# EAGLE library part ER-OLED011 (library ER-OLED)
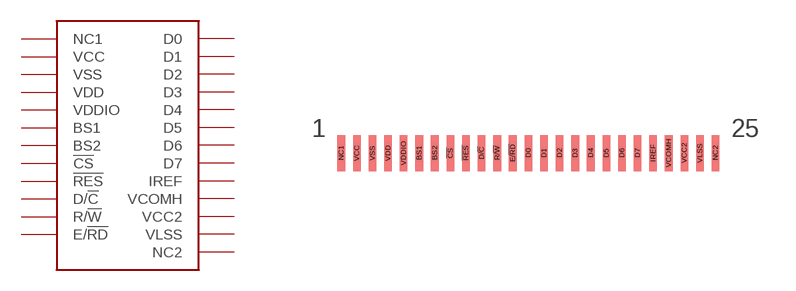
[diagram p4: symbol with the pads of ER-OLED011; footprint ER-OLED011]

Designator prefix -

## ER-OLED011  [ER-OLED011]
!CS  !CS
!RES  !RES
BS1  BS1
BS2  BS2
D0  D0
D1  D1
D2  D2
D3  D3
D4  D4
D5  D5
D6  D6
D7  D7
D/!C  D/!C
E/!RD  E/!RD
IREF  IREF
NC1  NC1
NC2  NC2
R/!W  R/!W
VCC  VCC
VCC2  VCC2
VCOMH  VCOMH
VDD  VDD
VDDIO  VDDIO
VLSS  VLSS
VSS  VSS

## Footprint ER-OLED011 (pad centres in mm)
smd 0.32 x 1.5: !CS -3.25,0; !RES -2.6,0; BS1 -4.55,0; BS2 -3.9,0; D0 0,0; D1 0.65,0; D2 1.3,0; D3 1.95,0; D4 2.6,0; D5 3.25,0; D6 3.9,0; D7 4.55,0; D/!C -1.95,0; E/!RD -0.65,0; IREF 5.2,0; NC1 -7.8,0; NC2 7.8,0; R/!W -1.3,0; VCC -7.15,0; VCC2 6.5,0; VCOMH 5.85,0; VDD -5.85,0; VDDIO -5.2,0; VLSS 7.15,0; VSS -6.5,0